# EAGLE library part LORA-RA-02-433MHZ (library digital-toy)
433 MHz Lora Ra-02 Radio Transceiver Module based on SX1276 chip. Visit our more eagle PCB <https://www.likecircuit.com/>
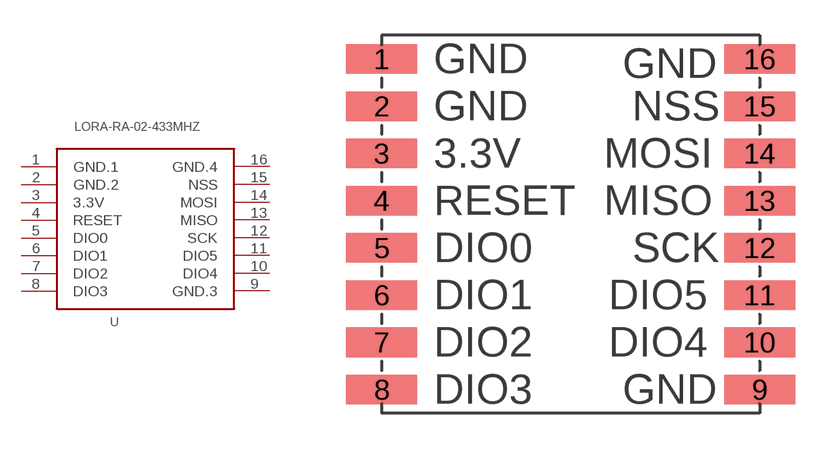
[diagram p30: symbol with the pads of LORA-RA2-SMD; footprint LORA-RA2-SMD]

Designator prefix -

## LORA-RA-02-433MHZ  [LORA-RA2-SMD]
1  GND.1  pwr
2  GND.2  pwr
3  3.3V  pwr
4  RESET
5  DIO0
6  DIO1
7  DIO2
8  DIO3
9  GND.3  pwr
10  DIO4
11  DIO5
12  SCK
13  MISO
14  MOSI
15  NSS
16  GND.4  pwr

## Footprint LORA-RA2-SMD (pad centres in mm)
433 MHz Lora Ra-02 Radio Transceiver Module. Footprint for SMD assembly.
smd 3 x 1.25: 1 -8,7; 2 -8,5; 3 -8,3; 4 -8,1; 5 -8,-1; 6 -8,-3; 7 -8,-5; 8 -8,-7; 9 8,-7; 10 8,-5; 11 8,-3; 12 8,-1; 13 8,1; 14 8,3; 15 8,5; 16 8,7